# EAGLE library part THS1230 (library xess)
TI 12-bit, 30 MSPS ADC
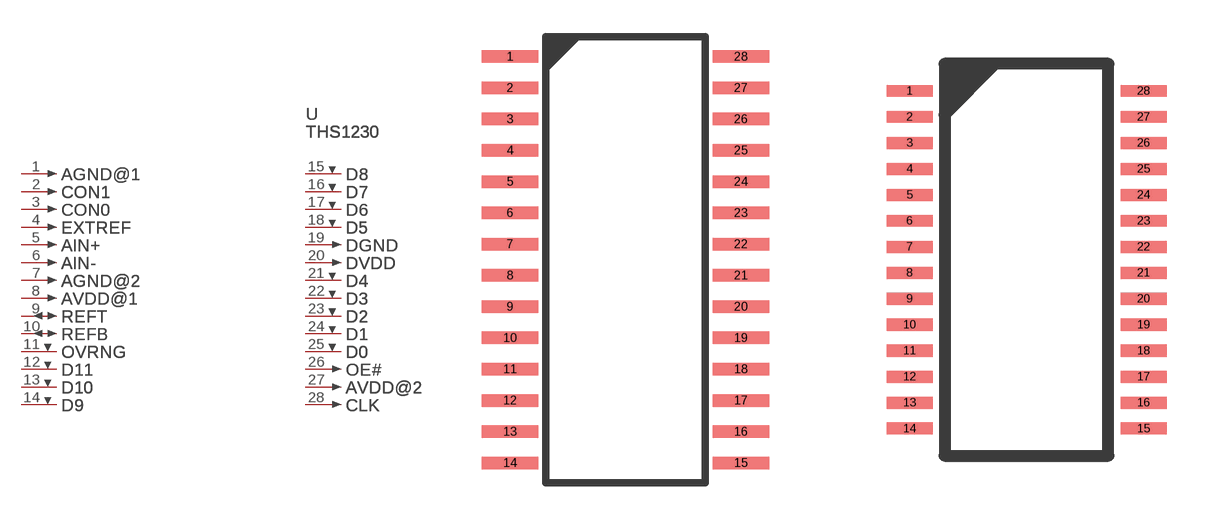
[diagram p145: symbol with the pads of TI-SOIC28; footprints TI-SOIC28, TI-TSSOP28]

Designator prefix U; gates PART=PV_GATE AGND@1=PIN_GATE_IN CON1=PIN_GATE_IN CON0=PIN_GATE_IN EXTREF=PIN_GATE_IN AIN+=PIN_GATE_IN AIN-=PIN_GATE_IN AGND@2=PIN_GATE_IN AVDD@1=PIN_GATE_IN REFT=PIN_GATE_IO REFB=PIN_GATE_IO OVRNG=PIN_GATE_HIZ D11=PIN_GATE_HIZ D10=PIN_GATE_HIZ D9=PIN_GATE_HIZ D8=PIN_GATE_HIZ D7=PIN_GATE_HIZ D6=PIN_GATE_HIZ D5=PIN_GATE_HIZ DGND=PIN_GATE_IN DVDD=PIN_GATE_IN D4=PIN_GATE_HIZ D3=PIN_GATE_HIZ D2=PIN_GATE_HIZ D1=PIN_GATE_HIZ D0=PIN_GATE_HIZ OE#=PIN_GATE_IN AVDD@2=PIN_GATE_IN CLK=PIN_GATE_IN

## THS1230SOIC28 (DIGIKEY#: 296-2837-5-ND; MANF: TI; MANF#: THS1230IDW; MOUSER#: 595-THS1230IDWG4)  [TI-SOIC28]
1  AGND@1:1  in
2  CON1:1  in
3  CON0:1  in
4  EXTREF:1  in
5  AIN+:1  in
6  AIN-:1  in
7  AGND@2:1  in
8  AVDD@1:1  in
9  REFT:1
10  REFB:1
11  OVRNG:1  hiz
12  D11:1  hiz
13  D10:1  hiz
14  D9:1  hiz
15  D8:1  hiz
16  D7:1  hiz
17  D6:1  hiz
18  D5:1  hiz
19  DGND:1  in
20  DVDD:1  in
21  D4:1  hiz
22  D3:1  hiz
23  D2:1  hiz
24  D1:1  hiz
25  D0:1  hiz
26  OE#:1  in
27  AVDD@2:1  in
28  CLK:1  in

## THS1230TSSOP28 (DIGIKEY#: 296-2838-5-ND; MANF: TI; MANF#: THS1230IPW; MOUSER#: 595-THS1230IPWG4)  [TI-TSSOP28]
Pads as for TI-SOIC28

## Footprint TI-SOIC28 (pad centres in mm)
TI SOIC-28
smd 2.286 x 0.508: 1 0,0; 2 0,-1.27; 3 0,-2.54; 4 0,-3.81; 5 0,-5.08; 6 0,-6.35; 7 0,-7.62; 8 0,-8.89; 9 0,-10.16; 10 0,-11.43; 11 0,-12.7; 12 0,-13.97; 13 0,-15.24; 14 0,-16.51; 15 9.373,-16.51; 16 9.373,-15.24; 17 9.373,-13.97; 18 9.373,-12.7; 19 9.373,-11.43; 20 9.373,-10.16; 21 9.373,-8.89; 22 9.373,-7.62; 23 9.373,-6.35; 24 9.373,-5.08; 25 9.373,-3.81; 26 9.373,-2.54; 27 9.373,-1.27; 28 9.373,0

## Footprint TI-TSSOP28 (pad centres in mm)
TI TSSOP-28
smd 1.15 x 0.3: 1 0,0; 2 0,-0.65; 3 0,-1.3; 4 0,-1.95; 5 0,-2.6; 6 0,-3.25; 7 0,-3.9; 8 0,-4.55; 9 0,-5.2; 10 0,-5.85; 11 0,-6.5; 12 0,-7.15; 13 0,-7.8; 14 0,-8.45; 15 5.85,-8.45; 16 5.85,-7.8; 17 5.85,-7.15; 18 5.85,-6.5; 19 5.85,-5.85; 20 5.85,-5.2; 21 5.85,-4.55; 22 5.85,-3.9; 23 5.85,-3.25; 24 5.85,-2.6; 25 5.85,-1.95; 26 5.85,-1.3; 27 5.85,-0.65; 28 5.85,0